# Altium footprint library PSOM.PcbLib: 3 footprints
Each footprint in its own frame and in the unit in brackets; x right, y up, seen from the top. Pads: shape width x height; smd on the part's side, far side on the other; paste and mask are expansions set on the pad; w line width, h text height; cw(c..) or ccw(c..) is an arc to the next point about the centre after c.
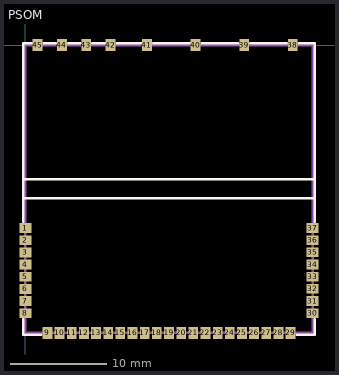
[diagram p0: the footprints below, top view; thin cyan lines are the x and y axes]

## PSOM [mil] "Version 2 (30x30)"
pads (45):
  rect 50x40 smd paste-5 mask+0: 1(0,-751.24) 2(0,-801.43) 3(0,-851.43) 4(0,-901.43) 5(0,-951.43) 6(0,-1001.43) 7(0,-1051.43) 8(0,-1101.43) 30(1181.1,-1101.43) 31(1181.1,-1051.24) 32(1181.1,-1001.24) 33(1181.1,-951.24) 34(1181.1,-901.24) 35(1181.1,-851.24) 36(1181.1,-801.24) 37(1181.1,-751.24)
  rect 40x50 smd paste-5 mask+0: 9(90.55,-1182.54) 10(140.55,-1182.54) 11(190.55,-1182.54) 12(240.55,-1182.54) 13(290.55,-1182.54) 14(340.55,-1182.54) 15(390.55,-1182.54) 16(440.55,-1182.54) 17(490.55,-1182.54) 18(540.55,-1182.54) 19(590.55,-1182.54) 20(640.55,-1182.54) 21(690.55,-1182.54) 22(740.55,-1182.54) 23(790.55,-1182.54) 24(840.55,-1182.54) 25(890.55,-1182.54) 26(940.55,-1182.54) 27(990.55,-1182.54) 28(1040.55,-1182.54) 29(1090.55,-1182.54) 38(1100,1.44) 39(900,1.44) 40(700,1.44) 41(500,1.44) 42(350,1.44) 43(250,1.44) 44(150,1.44) 45(50,1.44)
Top Overlay:
  lines w10: -9.45,-1125.55 -9.45,-1190.55 65.74,-1190.55 ; -9.45,-725.55 -9.45,9.45 25.55,9.45 ; -9.45,-629.37 1190.55,-629.37 ; -9.45,-550.63 1190.55,-550.63 ; 75.55,9.45 125.55,9.45 ; 175.55,9.45 225.55,9.45 ; 275.55,9.45 325.55,9.45 ; 375.55,9.45 475.55,9.45 ; 525.55,9.45 675.55,9.45 ; 725.55,9.45 875.55,9.45 ; 924.8,9.84 1074.8,9.84 ; 1115.36,-1190.02 1190.55,-1190.02 1190.55,-1125.55 ; 1125,9.45 1190.55,9.45 1190.55,-725.55
Mechanical 1:
  lines w10: 0,-1181.1 1181.1,-1181.1 1181.1,0 0,0 0,-1181.1
3D body "PSOM2.step": height 169.29, standoff -1.97, extent -0.76,-1180.43 1181.88,2.21

## PSOM-CTE-H-40 [mil] "PSOM PSOM-CTE-H-40 Current transformer"
3D body "PSOM-CTE-H-40.step": height 5, standoff -505.01, extent -960,0 0,1358.72

## PSOM-CTE-S-40 - duplicate [mil] "PSOM PSOM-CTE-S-40 Current transformer"
3D body "PSOM-CTE-S-40.step": height 5, standoff -505.01, extent -960,0.01 0,1331.95